# Altium footprint library 61201021721.PcbLib: 1 footprints
Each footprint in its own frame and in the unit in brackets; x right, y up, seen from the top. Pads: shape width x height; smd on the part's side, far side on the other; paste and mask are expansions set on the pad; w line width, h text height; cw(c..) or ccw(c..) is an arc to the next point about the centre after c.
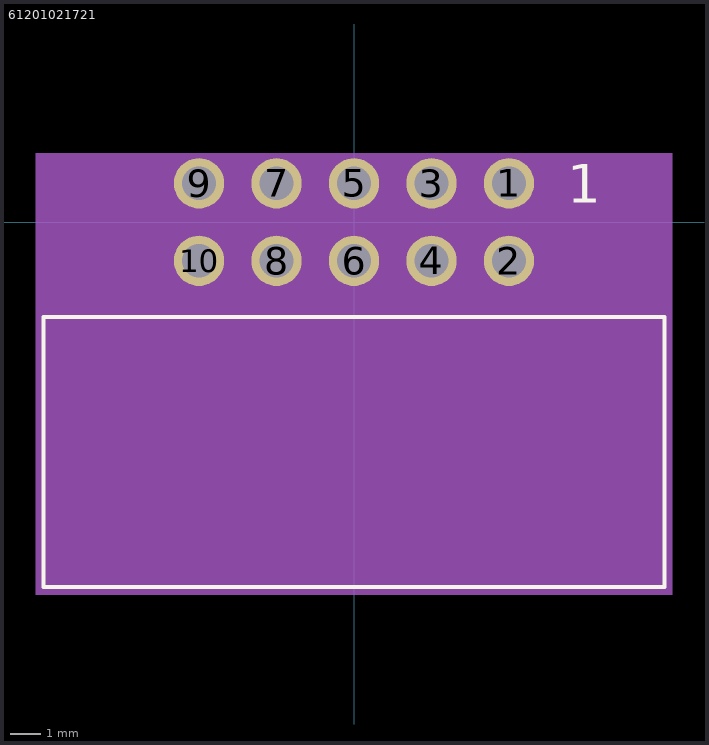
[diagram p0: the footprint, top view; thin cyan lines are the x and y axes]

## 61201021721 [mm]
pads (10):
  round 1.65 hole 1.1: 1(5.08,1.27) 2(5.08,-1.27) 3(2.54,1.27) 4(2.54,-1.27) 5(0,1.27) 6(0,-1.27) 7(-2.54,1.27) 8(-2.54,-1.27) 9(-5.08,1.27) 10(-5.08,-1.27)
Top Overlay:
  lines w0.127: -10.18,-11.96 10.18,-11.96 10.18,-3.11 -10.18,-3.11 -10.18,-11.96
  text "1" at 6.985,0.635 h1.27
Mechanical 13:
  text "1" at 6.985,0.635 h1.27
  text "10" at -8.89,-1.905 h1.27
  text "2" at 6.985,-1.905 h1.27
Mechanical 15:
  region: 10.43,-12.21 -10.43,-12.21 -10.43,2.25 10.43,2.25